# EAGLE library part MP5515 (library CanCubeSat)
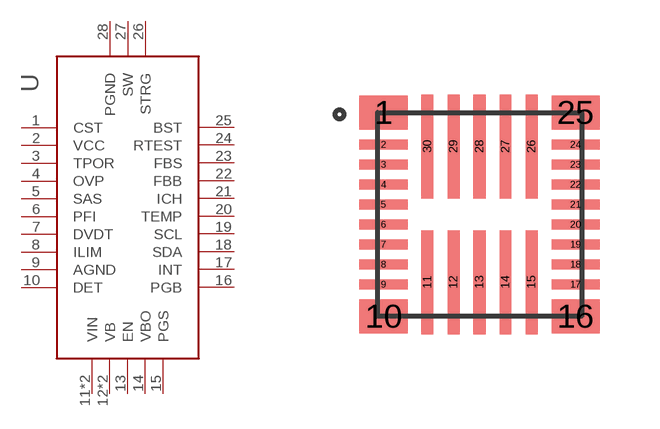
[diagram p30: symbol with the pads of QFN-30; footprint QFN-30]

Designator prefix -

## MP5515  [QFN-30]
1  CST
2  VCC
3  TPOR
4  OVP
5  SAS
6  PFI
7  DVDT
8  ILIM
9  AGND
10  DET
11  VIN
12  VB
13  EN
14  VBO
15  PGS
16  PGB
17  INT
18  SDA
19  SCL
20  TEMP
21  ICH
22  FBB
23  FBS
24  RTEST
25  BST
26  STRG
27  SW
28  PGND
29  VB
30  VIN

## Footprint QFN-30 (pad centres in mm)
smd 1.2 x 0.85: 1 -2.4,2.55; 10 -2.4,-2.55; 16 2.4,-2.55; 25 2.4,2.55
smd 1.2 x 0.25: 2 -2.4,1.75; 3 -2.4,1.25; 4 -2.4,0.75; 5 -2.4,0.25; 6 -2.4,-0.25; 7 -2.4,-0.75; 8 -2.4,-1.25; 9 -2.4,-1.75; 17 2.4,-1.75; 18 2.4,-1.25; 19 2.4,-0.75; 20 2.4,-0.25; 21 2.4,0.25; 22 2.4,0.75; 23 2.4,1.25; 24 2.4,1.75
smd 0.3 x 2.6: 11 -1.3,-1.7; 12 -0.65,-1.7; 13 0,-1.7; 14 0.65,-1.7; 15 1.3,-1.7; 26 1.3,1.7; 27 0.65,1.7; 28 0,1.7; 29 -0.65,1.7; 30 -1.3,1.7